# EAGLE library part SAMTEC_PI (library FPC)
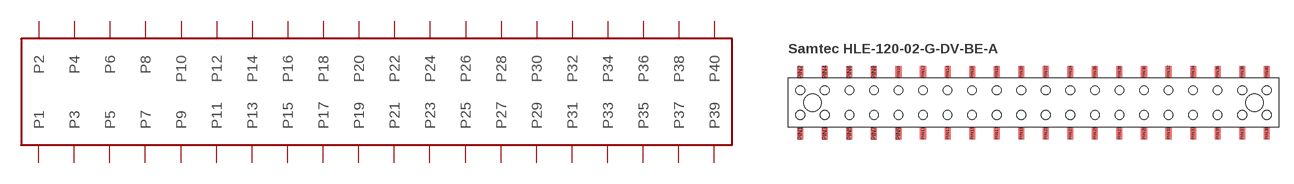
[diagram p1: symbol with the pads of HLE-120-02-G-DV-BE-A; footprint HLE-120-02-G-DV-BE-A]

Designator prefix -

## SAMTEC_PI  [HLE-120-02-G-DV-BE-A]
PIN1  P1
PIN2  P2
PIN3  P3
PIN4  P4
PIN5  P5
PIN6  P6
PIN7  P7
PIN8  P8
PIN9  P9
PIN10  P10
PIN11  P11
PIN12  P12
PIN13  P13
PIN14  P14
PIN15  P15
PIN16  P16
PIN17  P17
PIN18  P18
PIN19  P19
PIN20  P20
PIN21  P21
PIN22  P22
PIN23  P23
PIN24  P24
PIN25  P25
PIN26  P26
PIN27  P27
PIN28  P28
PIN29  P29
PIN30  P30
PIN31  P31
PIN32  P32
PIN33  P33
PIN34  P34
PIN35  P35
PIN36  P36
PIN37  P37
PIN38  P38
PIN39  P39
PIN40  P40

## Footprint HLE-120-02-G-DV-BE-A (pad centres in mm)
smd 0.635 x 1.27: PIN1 -24.13,-3.175; PIN2 -24.13,3.175; PIN3 -21.59,-3.175; PIN4 -21.59,3.175; PIN5 -19.05,-3.175; PIN6 -19.05,3.175; PIN7 -16.51,-3.175; PIN8 -16.51,3.175; PIN9 -13.97,-3.175; PIN10 -13.97,3.175; PIN11 -11.43,-3.175; PIN12 -11.43,3.175; PIN13 -8.89,-3.175; PIN14 -8.89,3.175; PIN15 -6.35,-3.175; PIN16 -6.35,3.175; PIN17 -3.81,-3.175; PIN18 -3.81,3.175; PIN19 -1.27,-3.175; PIN20 -1.27,3.175; PIN21 1.27,-3.175; PIN22 1.27,3.175; PIN23 3.81,-3.175; PIN24 3.81,3.175; PIN25 6.35,-3.175; PIN26 6.35,3.175; PIN27 8.89,-3.175; PIN28 8.89,3.175; PIN29 11.43,-3.175; PIN30 11.43,3.175; PIN31 13.97,-3.175; PIN32 13.97,3.175; PIN33 16.51,-3.175; PIN34 16.51,3.175; PIN35 19.05,-3.175; PIN36 19.05,3.175; PIN37 21.59,-3.175; PIN38 21.59,3.175; PIN39 24.13,-3.175; PIN40 24.13,3.175
hole 0.9 at 1.27,1.27
hole 0.9 at 3.81,1.27
hole 0.9 at 6.35,1.27
hole 0.9 at 8.89,1.27
hole 0.9 at 11.43,1.27
hole 0.9 at 13.97,1.27
hole 0.9 at 16.51,1.27
hole 0.9 at 19.05,1.27
hole 0.9 at 21.59,1.27
hole 0.9 at 24.13,1.27
hole 0.9 at 24.13,-1.27
hole 0.9 at 21.59,-1.27
hole 0.9 at 19.05,-1.27
hole 0.9 at 16.51,-1.27
hole 0.9 at 13.97,-1.27
hole 0.9 at 11.43,-1.27
hole 0.9 at 8.89,-1.27
hole 0.9 at 6.35,-1.27
hole 0.9 at 3.81,-1.27
hole 0.9 at 1.27,-1.27
hole 0.9 at -1.27,-1.27
hole 0.9 at -3.81,-1.27
hole 0.9 at -6.35,-1.27
hole 0.9 at -8.89,-1.27
hole 0.9 at -11.43,-1.27
hole 0.9 at -13.97,-1.27
hole 0.9 at -16.51,-1.27
hole 0.9 at -19.05,-1.27
hole 0.9 at -21.59,-1.27
hole 0.9 at -24.13,-1.27
hole 0.9 at -24.13,1.27
hole 0.9 at -21.59,1.27
hole 0.9 at -19.05,1.27
hole 0.9 at -16.51,1.27
hole 0.9 at -13.97,1.27
hole 0.9 at -11.43,1.27
hole 0.9 at -8.89,1.27
hole 0.9 at -6.35,1.27
hole 0.9 at -3.81,1.27
hole 0.9 at -1.27,1.27
hole 1.778 at -22.86,0
hole 1.778 at 22.86,0